# Altium schematic symbol library 3220-10-0100-00.SchLib: 1 symbol
Pins are listed as number, name and electrical type; pins without a type are passive.

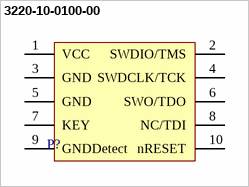
[diagram p0: symbol 3220-10-0100-00]

## 3220-10-0100-00
designator P?, comment 3220-10-0100-00 Pin connector for Cotex Programmers  (value not drawn)
3220-10-0100-00 Pin connector from DigiKey; ComponentLink1Description: 3220-10-0100-00; ComponentLink1URL: https://www.digikey.com/product-detail/en/cnc-tech/3220-10-0100-00/1175-1627-ND/3883661
pins: 1 VCC, 2 SWDIO/TMS, 3 GND, 4 SWDCLK/TCK, 5 GND, 6 SWO/TDO, 7 KEY, 8 NC/TDI, 9 GNDDetect, 10 nRESET